# EAGLE library part DRV8353RH (library mosfet_drivers)
Multiphase Motor Driver Power MOSFET Hardware 48-VQFN (7x7)
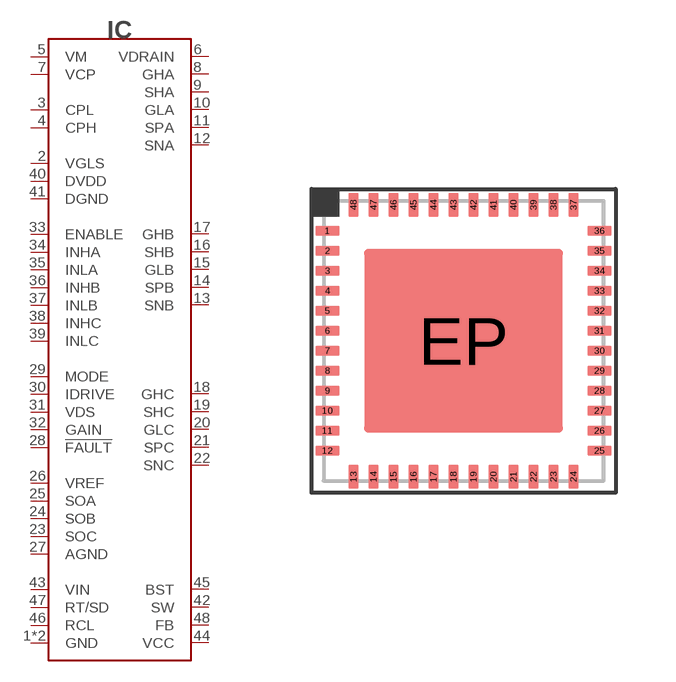
[diagram p3: symbol with the pads of VQFN-48(7X7); footprint VQFN-48(7X7)]

Designator prefix IC

## DRV8353RH (DIGIKEY#: 296-50272-2-ND; MANF: Texas Instruments; MANF#: DRV8353RHRGZT)  [VQFN-48(7X7)]
1  GND
2  VGLS
3  CPL
4  CPH
5  VM
6  VDRAIN
7  VCP
8  GHA
9  SHA
10  GLA
11  SPA
12  SNA
13  SNB
14  SPB
15  GLB
16  SHB
17  GHB
18  GHC
19  SHC
20  GLC
21  SPC
22  SNC
23  SOC
24  SOB
25  SOA
26  VREF
27  AGND
28  !FAULT
29  MODE
30  IDRIVE
31  VDS
32  GAIN
33  ENABLE
34  INHA
35  INLA
36  INHB
37  INLB
38  INHC
39  INLC
40  DVDD
41  DGND
42  SW
43  VIN
44  VCC
45  BST
46  RCL
47  RT/SD
48  FB
EP  GND

## Footprint VQFN-48(7X7) (pad centres in mm)
smd 0.6 x 0.24: 1 -3.4,2.75; 2 -3.4,2.25; 3 -3.4,1.75; 4 -3.4,1.25; 5 -3.4,0.75; 6 -3.4,0.25; 7 -3.4,-0.25; 8 -3.4,-0.75; 9 -3.4,-1.25; 10 -3.4,-1.75; 11 -3.4,-2.25; 12 -3.4,-2.75; 25 3.4,-2.75; 26 3.4,-2.25; 27 3.4,-1.75; 28 3.4,-1.25; 29 3.4,-0.75; 30 3.4,-0.25; 31 3.4,0.25; 32 3.4,0.75; 33 3.4,1.25; 34 3.4,1.75; 35 3.4,2.25; 36 3.4,2.75
smd 0.24 x 0.6: 13 -2.75,-3.4; 14 -2.25,-3.4; 15 -1.75,-3.4; 16 -1.25,-3.4; 17 -0.75,-3.4; 18 -0.25,-3.4; 19 0.25,-3.4; 20 0.75,-3.4; 21 1.25,-3.4; 22 1.75,-3.4; 23 2.25,-3.4; 24 2.75,-3.4; 37 2.75,3.4; 38 2.25,3.4; 39 1.75,3.4; 40 1.25,3.4; 41 0.75,3.4; 42 0.25,3.4; 43 -0.25,3.4; 44 -0.75,3.4; 45 -1.25,3.4; 46 -1.75,3.4; 47 -2.25,3.4; 48 -2.75,3.4
smd 4.975 x 4.6: EP 0,0